# Altium schematic symbol library mcu_stm32g.SchLib: 8 symbols
Pins are listed as number, name and electrical type; pins without a type are passive.

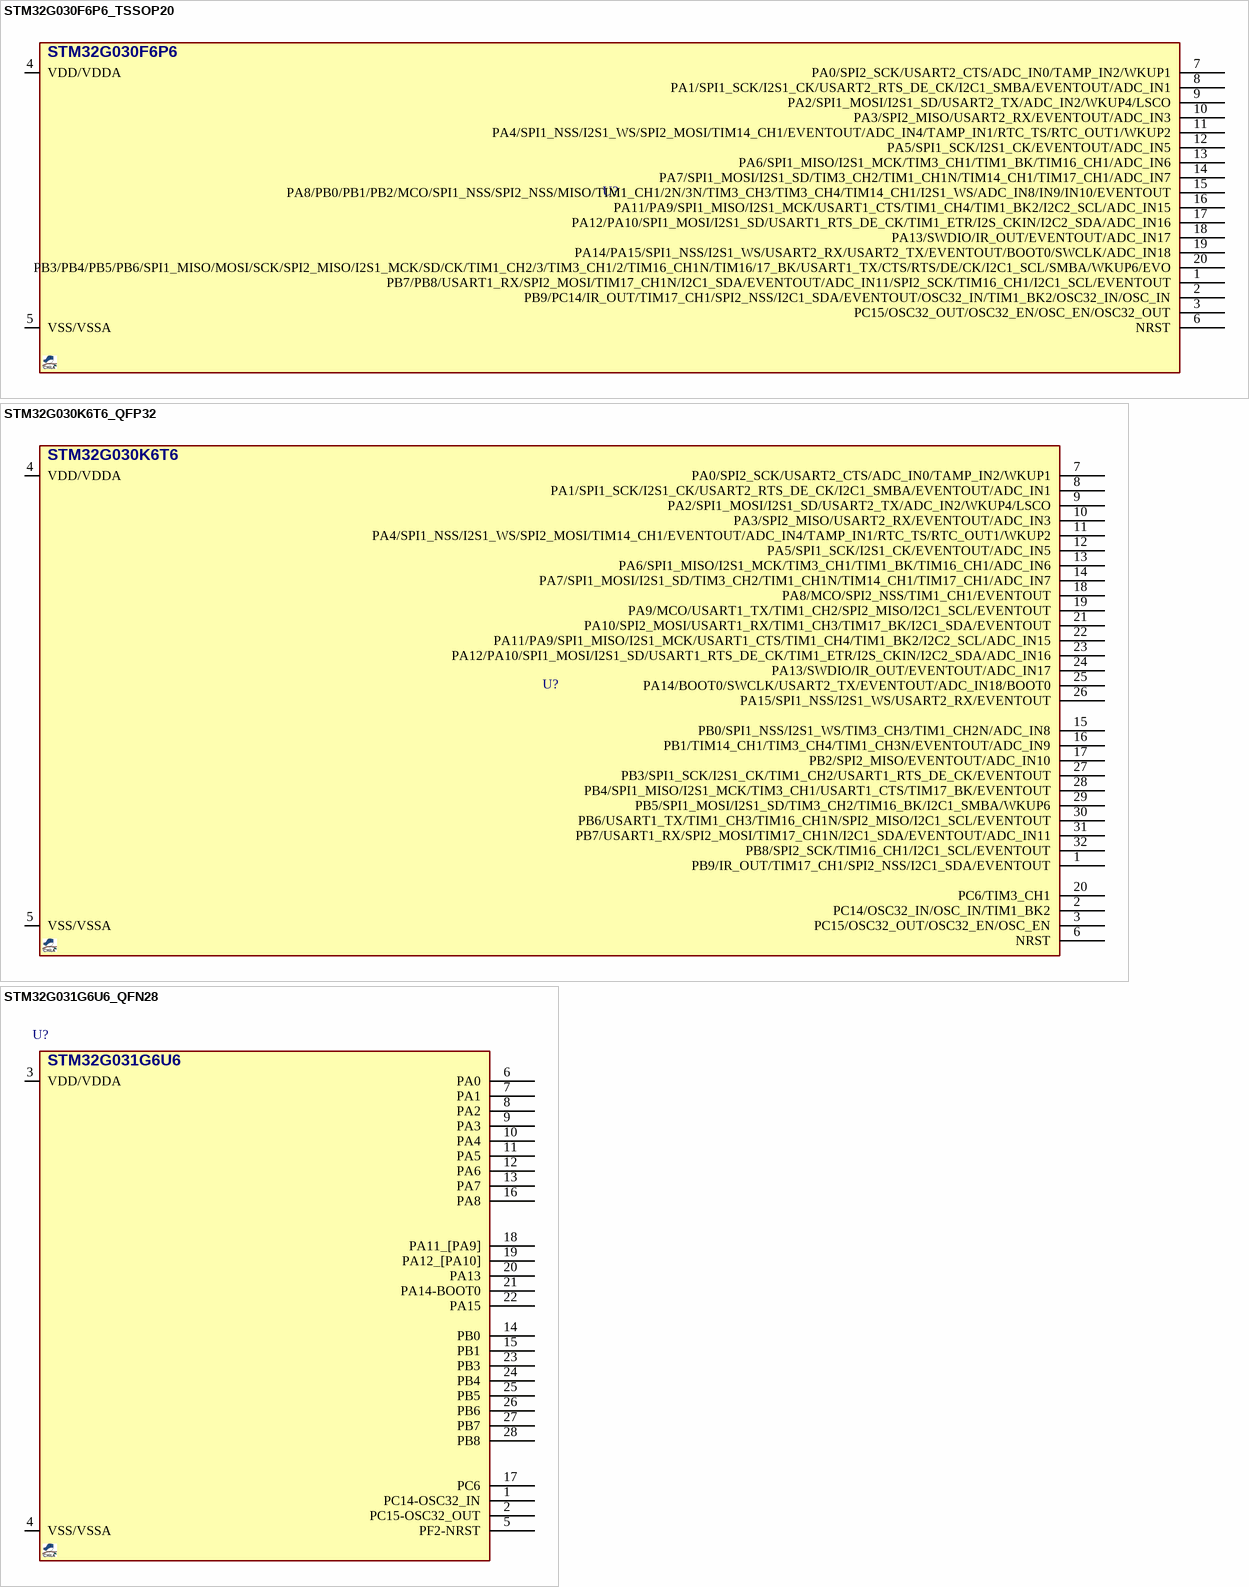
[diagram p0: symbols STM32G030F6P6_TSSOP20 to STM32G031G6U6_QFN28]

## STM32G030F6P6_TSSOP20
designator U?, comment STM32G030  (value not drawn)
MCU, STM32 ARM 32-bit, Cortex M0, 32KB FLASH, 8KB SRAM; DESC: 64MHz, I2C, SPI, USART; MANF: ST; MANF_P#: STM32G030F6P6; PARAM2: 2~3.6VCC, 64MHz, 12Bit ADC; PARAM: 32KB FLASH, 8KB SRAM, -40~85°C; PRICE: 4$; VALUE: STM32G030; PACKAGE: TSSOP-20
footprint SOG65_20 (PW TSSOP (TI), MO-153-AC (JEDEC), 20Lead, pitch: 0.65mm, 6.5x4.4x1.2mm)
pins: 1 PB7/PB8/USART1_RX/SPI2_MOSI/TIM17_CH1N/I2C1_SDA/EVENTOUT/ADC_IN11/SPI2_SCK/TIM16_CH1/I2C1_SCL/EVENTOUT, 2 PB9/PC14/IR_OUT/TIM17_CH1/SPI2_NSS/I2C1_SDA/EVENTOUT/OSC32_IN/TIM1_BK2/OSC32_IN/OSC_IN, 3 PC15/OSC32_OUT/OSC32_EN/OSC_EN/OSC32_OUT, 4 VDD/VDDA, 5 VSS/VSSA, 6 NRST, 7 PA0/SPI2_SCK/USART2_CTS/ADC_IN0/TAMP_IN2/WKUP1, 8 PA1/SPI1_SCK/I2S1_CK/USART2_RTS_DE_CK/I2C1_SMBA/EVENTOUT/ADC_IN1, 9 PA2/SPI1_MOSI/I2S1_SD/USART2_TX/ADC_IN2/WKUP4/LSCO, 10 PA3/SPI2_MISO/USART2_RX/EVENTOUT/ADC_IN3, 11 PA4/SPI1_NSS/I2S1_WS/SPI2_MOSI/TIM14_CH1/EVENTOUT/ADC_IN4/TAMP_IN1/RTC_TS/RTC_OUT1/WKUP2, 12 PA5/SPI1_SCK/I2S1_CK/EVENTOUT/ADC_IN5, 13 PA6/SPI1_MISO/I2S1_MCK/TIM3_CH1/TIM1_BK/TIM16_CH1/ADC_IN6, 14 PA7/SPI1_MOSI/I2S1_SD/TIM3_CH2/TIM1_CH1N/TIM14_CH1/TIM17_CH1/ADC_IN7, 15 PA8/PB0/PB1/PB2/MCO/SPI1_NSS/SPI2_NSS/MISO/TIM1_CH1/2N/3N/TIM3_CH3/TIM3_CH4/TIM14_CH1/I2S1_WS/ADC_IN8/IN9/IN10/EVENTOUT, 16 PA11/PA9/SPI1_MISO/I2S1_MCK/USART1_CTS/TIM1_CH4/TIM1_BK2/I2C2_SCL/ADC_IN15, 17 PA12/PA10/SPI1_MOSI/I2S1_SD/USART1_RTS_DE_CK/TIM1_ETR/I2S_CKIN/I2C2_SDA/ADC_IN16, 18 PA13/SWDIO/IR_OUT/EVENTOUT/ADC_IN17, 19 PA14/PA15/SPI1_NSS/I2S1_WS/USART2_RX/USART2_TX/EVENTOUT/BOOT0/SWCLK/ADC_IN18, 20 PB3/PB4/PB5/PB6/SPI1_MISO/MOSI/SCK/SPI2_MISO/I2S1_MCK/SD/CK/TIM1_CH2/3/TIM3_CH1/2/TIM16_CH1N/TIM16/17_BK/USART1_TX/CTS/RTS/DE/CK/I2C1_SCL/SMBA/WKUP6/EVO

## STM32G030K6T6_QFP32
designator U?, comment STM32G030K6T6  (value not drawn)
MCU, STM32 ARM 32-bit, Cortex M0, 32KB FLASH, 8KB SRAM; DESC: 64MHz, I2C, SPI, USART; MANF: ST; PARAM2: 2~3.6VCC, 64MHz, 12Bit ADC; PARAM: 32KB FLASH,8KB SRAM, -40~85°C; MANF_P#: STM32G030K6T6; PRICE: 1$; VALUE: STM32G030K6T6; PACKAGE: LQFP-32
footprint QFG80_32 (TQFP32, A32 (Cypress), GP32 (Zarlink), MS-026ABA(JEDEC), 7X7mm, 0.8mm)
pins: 1 PB9/IR_OUT/TIM17_CH1/SPI2_NSS/I2C1_SDA/EVENTOUT, 2 PC14/OSC32_IN/OSC_IN/TIM1_BK2, 3 PC15/OSC32_OUT/OSC32_EN/OSC_EN, 4 VDD/VDDA, 5 VSS/VSSA, 6 NRST, 7 PA0/SPI2_SCK/USART2_CTS/ADC_IN0/TAMP_IN2/WKUP1, 8 PA1/SPI1_SCK/I2S1_CK/USART2_RTS_DE_CK/I2C1_SMBA/EVENTOUT/ADC_IN1, 9 PA2/SPI1_MOSI/I2S1_SD/USART2_TX/ADC_IN2/WKUP4/LSCO, 10 PA3/SPI2_MISO/USART2_RX/EVENTOUT/ADC_IN3, 11 PA4/SPI1_NSS/I2S1_WS/SPI2_MOSI/TIM14_CH1/EVENTOUT/ADC_IN4/TAMP_IN1/RTC_TS/RTC_OUT1/WKUP2, 12 PA5/SPI1_SCK/I2S1_CK/EVENTOUT/ADC_IN5, 13 PA6/SPI1_MISO/I2S1_MCK/TIM3_CH1/TIM1_BK/TIM16_CH1/ADC_IN6, 14 PA7/SPI1_MOSI/I2S1_SD/TIM3_CH2/TIM1_CH1N/TIM14_CH1/TIM17_CH1/ADC_IN7, 15 PB0/SPI1_NSS/I2S1_WS/TIM3_CH3/TIM1_CH2N/ADC_IN8, 16 PB1/TIM14_CH1/TIM3_CH4/TIM1_CH3N/EVENTOUT/ADC_IN9, 17 PB2/SPI2_MISO/EVENTOUT/ADC_IN10, 18 PA8/MCO/SPI2_NSS/TIM1_CH1/EVENTOUT, 19 PA9/MCO/USART1_TX/TIM1_CH2/SPI2_MISO/I2C1_SCL/EVENTOUT, 20 PC6/TIM3_CH1, 21 PA10/SPI2_MOSI/USART1_RX/TIM1_CH3/TIM17_BK/I2C1_SDA/EVENTOUT, 22 PA11/PA9/SPI1_MISO/I2S1_MCK/USART1_CTS/TIM1_CH4/TIM1_BK2/I2C2_SCL/ADC_IN15, 23 PA12/PA10/SPI1_MOSI/I2S1_SD/USART1_RTS_DE_CK/TIM1_ETR/I2S_CKIN/I2C2_SDA/ADC_IN16, 24 PA13/SWDIO/IR_OUT/EVENTOUT/ADC_IN17, 25 PA14/BOOT0/SWCLK/USART2_TX/EVENTOUT/ADC_IN18/BOOT0, 26 PA15/SPI1_NSS/I2S1_WS/USART2_RX/EVENTOUT, 27 PB3/SPI1_SCK/I2S1_CK/TIM1_CH2/USART1_RTS_DE_CK/EVENTOUT, 28 PB4/SPI1_MISO/I2S1_MCK/TIM3_CH1/USART1_CTS/TIM17_BK/EVENTOUT, 29 PB5/SPI1_MOSI/I2S1_SD/TIM3_CH2/TIM16_BK/I2C1_SMBA/WKUP6, 30 PB6/USART1_TX/TIM1_CH3/TIM16_CH1N/SPI2_MISO/I2C1_SCL/EVENTOUT, 31 PB7/USART1_RX/SPI2_MOSI/TIM17_CH1N/I2C1_SDA/EVENTOUT/ADC_IN11, 32 PB8/SPI2_SCK/TIM16_CH1/I2C1_SCL/EVENTOUT

## STM32G031G6U6_QFN28
designator U?, comment STM32G031G6U6  (value not drawn)
MCU, STM32 ARM 32-bit, Cortex M0, 32KB FLASH, 8KB SRAM; DESC: 64MHz, I2C, SPI, USART; MANF: ST; PARAM2: 1.7~3.6VCC, 64MHz, 12Bit ADC; PARAM: 32KB FLASH,8KB SRAM, -40~85°C; MANF_P#: STM32G031G6U6; PRICE: 1$; VALUE: STM32G031G6U6; PACKAGE: UFQFPN-28
footprint QFN50_28_4X4 (UFQFPN-28, 28, 4X4mm, 0.5mm pitch)
pins: 1 PC14-OSC32_IN, 2 PC15-OSC32_OUT, 3 VDD/VDDA, 4 VSS/VSSA, 5 PF2-NRST, 6 PA0, 7 PA1, 8 PA2, 9 PA3, 10 PA4, 11 PA5, 12 PA6, 13 PA7, 14 PB0, 15 PB1, 16 PA8, 17 PC6, 18 PA11_[PA9], 19 PA12_[PA10], 20 PA13, 21 PA14-BOOT0, 22 PA15, 23 PB3, 24 PB4, 25 PB5, 26 PB6, 27 PB7, 28 PB8

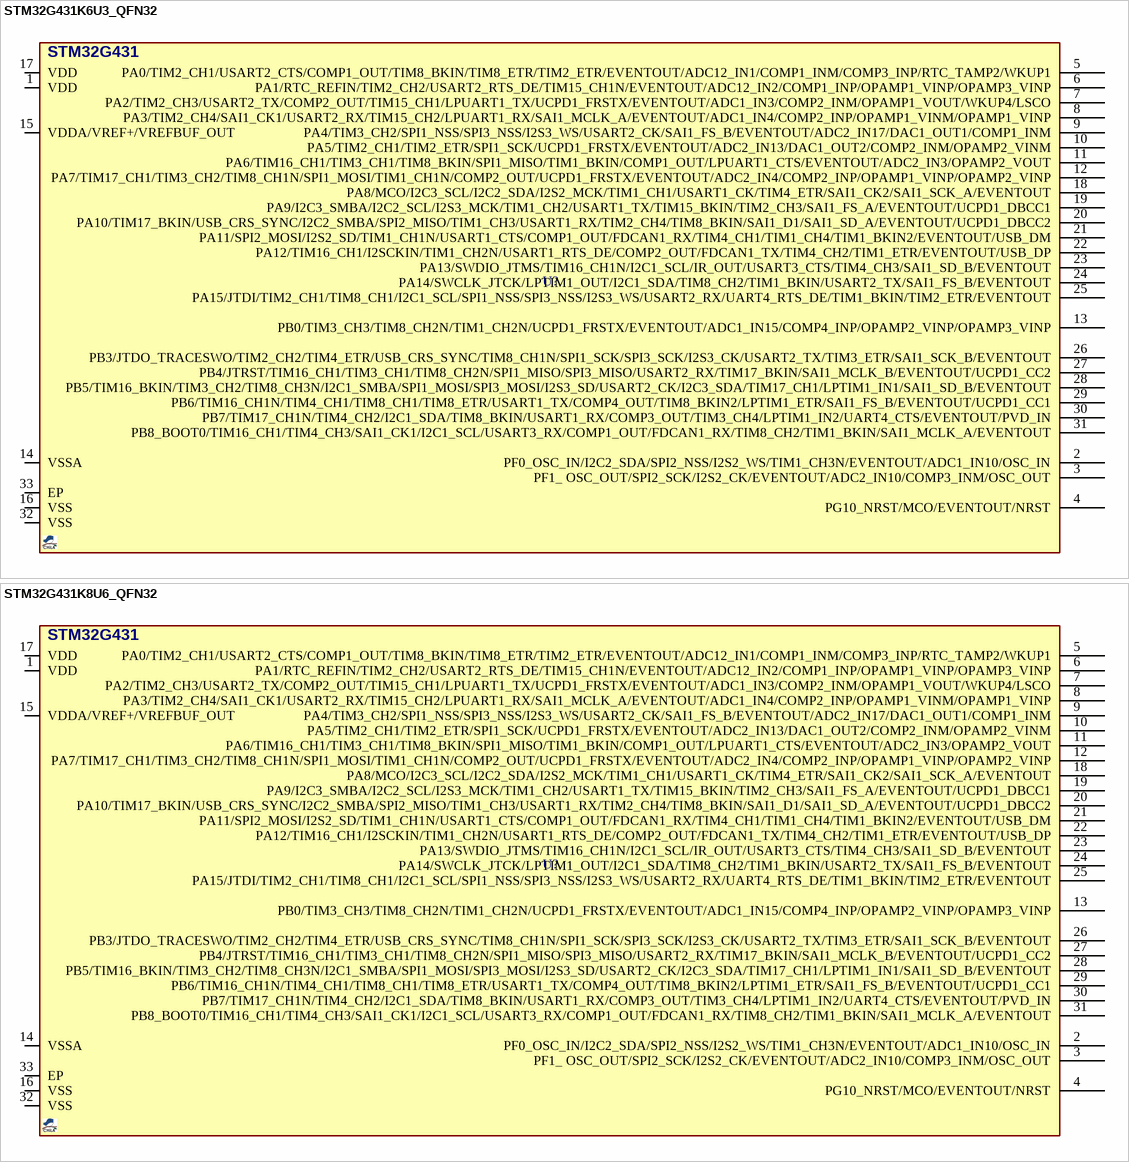
[diagram p1: symbols STM32G431K6U3_QFN32 to STM32G431K8U6_QFN32]

## STM32G431K6U3_QFN32
designator U?, comment STM32G431  (value not drawn)
MCU, STM32 ARM 32-bit, Cortex M4, 32KB FLASH, 32KB SRAM; DESC: 170MHz, CAN, I2C, SPI, USART, USB; MANF: ST; MANF_P#: STM32G431K6U3; PARAM2: 1.7~3.6VCC, 72MHz, 2X16Bit ADC; PARAM: 32KB FLASH, 32KB SRAM, -40~125oC; PRICE: 4$; VALUE: STM32G431; PACKAGE: QFN-32
footprint QFN50_32T (UFQFPN32, QFN-32, RGJ, 5X5mm, 0.5mm)
pins: 1 VDD, 2 PF0_OSC_IN/I2C2_SDA/SPI2_NSS/I2S2_WS/TIM1_CH3N/EVENTOUT/ADC1_IN10/OSC_IN, 3 PF1_ OSC_OUT/SPI2_SCK/I2S2_CK/EVENTOUT/ADC2_IN10/COMP3_INM/OSC_OUT, 4 PG10_NRST/MCO/EVENTOUT/NRST, 5 PA0/TIM2_CH1/USART2_CTS/COMP1_OUT/TIM8_BKIN/TIM8_ETR/TIM2_ETR/EVENTOUT/ADC12_IN1/COMP1_INM/COMP3_INP/RTC_TAMP2/WKUP1, 6 PA1/RTC_REFIN/TIM2_CH2/USART2_RTS_DE/TIM15_CH1N/EVENTOUT/ADC12_IN2/COMP1_INP/OPAMP1_VINP/OPAMP3_VINP, 7 PA2/TIM2_CH3/USART2_TX/COMP2_OUT/TIM15_CH1/LPUART1_TX/UCPD1_FRSTX/EVENTOUT/ADC1_IN3/COMP2_INM/OPAMP1_VOUT/WKUP4/LSCO, 8 PA3/TIM2_CH4/SAI1_CK1/USART2_RX/TIM15_CH2/LPUART1_RX/SAI1_MCLK_A/EVENTOUT/ADC1_IN4/COMP2_INP/OPAMP1_VINM/OPAMP1_VINP, 9 PA4/TIM3_CH2/SPI1_NSS/SPI3_NSS/I2S3_WS/USART2_CK/SAI1_FS_B/EVENTOUT/ADC2_IN17/DAC1_OUT1/COMP1_INM, 10 PA5/TIM2_CH1/TIM2_ETR/SPI1_SCK/UCPD1_FRSTX/EVENTOUT/ADC2_IN13/DAC1_OUT2/COMP2_INM/OPAMP2_VINM, 11 PA6/TIM16_CH1/TIM3_CH1/TIM8_BKIN/SPI1_MISO/TIM1_BKIN/COMP1_OUT/LPUART1_CTS/EVENTOUT/ADC2_IN3/OPAMP2_VOUT, 12 PA7/TIM17_CH1/TIM3_CH2/TIM8_CH1N/SPI1_MOSI/TIM1_CH1N/COMP2_OUT/UCPD1_FRSTX/EVENTOUT/ADC2_IN4/COMP2_INP/OPAMP1_VINP/OPAMP2_VINP, 13 PB0/TIM3_CH3/TIM8_CH2N/TIM1_CH2N/UCPD1_FRSTX/EVENTOUT/ADC1_IN15/COMP4_INP/OPAMP2_VINP/OPAMP3_VINP, 14 VSSA, 15 VDDA/VREF+/VREFBUF_OUT, 16 VSS, 17 VDD, 18 PA8/MCO/I2C3_SCL/I2C2_SDA/I2S2_MCK/TIM1_CH1/USART1_CK/TIM4_ETR/SAI1_CK2/SAI1_SCK_A/EVENTOUT, 19 PA9/I2C3_SMBA/I2C2_SCL/I2S3_MCK/TIM1_CH2/USART1_TX/TIM15_BKIN/TIM2_CH3/SAI1_FS_A/EVENTOUT/UCPD1_DBCC1, 20 PA10/TIM17_BKIN/USB_CRS_SYNC/I2C2_SMBA/SPI2_MISO/TIM1_CH3/USART1_RX/TIM2_CH4/TIM8_BKIN/SAI1_D1/SAI1_SD_A/EVENTOUT/UCPD1_DBCC2, 21 PA11/SPI2_MOSI/I2S2_SD/TIM1_CH1N/USART1_CTS/COMP1_OUT/FDCAN1_RX/TIM4_CH1/TIM1_CH4/TIM1_BKIN2/EVENTOUT/USB_DM, 22 PA12/TIM16_CH1/I2SCKIN/TIM1_CH2N/USART1_RTS_DE/COMP2_OUT/FDCAN1_TX/TIM4_CH2/TIM1_ETR/EVENTOUT/USB_DP, 23 PA13/SWDIO_JTMS/TIM16_CH1N/I2C1_SCL/IR_OUT/USART3_CTS/TIM4_CH3/SAI1_SD_B/EVENTOUT, 24 PA14/SWCLK_JTCK/LPTIM1_OUT/I2C1_SDA/TIM8_CH2/TIM1_BKIN/USART2_TX/SAI1_FS_B/EVENTOUT, 25 PA15/JTDI/TIM2_CH1/TIM8_CH1/I2C1_SCL/SPI1_NSS/SPI3_NSS/I2S3_WS/USART2_RX/UART4_RTS_DE/TIM1_BKIN/TIM2_ETR/EVENTOUT, 26 PB3/JTDO_TRACESWO/TIM2_CH2/TIM4_ETR/USB_CRS_SYNC/TIM8_CH1N/SPI1_SCK/SPI3_SCK/I2S3_CK/USART2_TX/TIM3_ETR/SAI1_SCK_B/EVENTOUT, 27 PB4/JTRST/TIM16_CH1/TIM3_CH1/TIM8_CH2N/SPI1_MISO/SPI3_MISO/USART2_RX/TIM17_BKIN/SAI1_MCLK_B/EVENTOUT/UCPD1_CC2, 28 PB5/TIM16_BKIN/TIM3_CH2/TIM8_CH3N/I2C1_SMBA/SPI1_MOSI/SPI3_MOSI/I2S3_SD/USART2_CK/I2C3_SDA/TIM17_CH1/LPTIM1_IN1/SAI1_SD_B/EVENTOUT, 29 PB6/TIM16_CH1N/TIM4_CH1/TIM8_CH1/TIM8_ETR/USART1_TX/COMP4_OUT/TIM8_BKIN2/LPTIM1_ETR/SAI1_FS_B/EVENTOUT/UCPD1_CC1, 30 PB7/TIM17_CH1N/TIM4_CH2/I2C1_SDA/TIM8_BKIN/USART1_RX/COMP3_OUT/TIM3_CH4/LPTIM1_IN2/UART4_CTS/EVENTOUT/PVD_IN, 31 PB8_BOOT0/TIM16_CH1/TIM4_CH3/SAI1_CK1/I2C1_SCL/USART3_RX/COMP1_OUT/FDCAN1_RX/TIM8_CH2/TIM1_BKIN/SAI1_MCLK_A/EVENTOUT, 32 VSS, 33 EP

## STM32G431K8U6_QFN32
designator U?, comment STM32G431  (value not drawn)
MCU, STM32 ARM 32-bit, Cortex M4, 64KB FLASH, 32KB SRAM; DESC: 170MHz, CAN, I2C, SPI, USART, USB; MANF: ST; MANF_P#: STM32G431K8U6; PARAM2: 1.7~3.6VCC, 72MHz, 2X16Bit ADC; PARAM: 64KB FLASH, 32KB SRAM, -40~85oC; PRICE: 4$; VALUE: STM32G431; PACKAGE: QFN-32
footprint QFN50_32T (UFQFPN32, QFN-32, RGJ, 5X5mm, 0.5mm)
pins: 1 VDD, 2 PF0_OSC_IN/I2C2_SDA/SPI2_NSS/I2S2_WS/TIM1_CH3N/EVENTOUT/ADC1_IN10/OSC_IN, 3 PF1_ OSC_OUT/SPI2_SCK/I2S2_CK/EVENTOUT/ADC2_IN10/COMP3_INM/OSC_OUT, 4 PG10_NRST/MCO/EVENTOUT/NRST, 5 PA0/TIM2_CH1/USART2_CTS/COMP1_OUT/TIM8_BKIN/TIM8_ETR/TIM2_ETR/EVENTOUT/ADC12_IN1/COMP1_INM/COMP3_INP/RTC_TAMP2/WKUP1, 6 PA1/RTC_REFIN/TIM2_CH2/USART2_RTS_DE/TIM15_CH1N/EVENTOUT/ADC12_IN2/COMP1_INP/OPAMP1_VINP/OPAMP3_VINP, 7 PA2/TIM2_CH3/USART2_TX/COMP2_OUT/TIM15_CH1/LPUART1_TX/UCPD1_FRSTX/EVENTOUT/ADC1_IN3/COMP2_INM/OPAMP1_VOUT/WKUP4/LSCO, 8 PA3/TIM2_CH4/SAI1_CK1/USART2_RX/TIM15_CH2/LPUART1_RX/SAI1_MCLK_A/EVENTOUT/ADC1_IN4/COMP2_INP/OPAMP1_VINM/OPAMP1_VINP, 9 PA4/TIM3_CH2/SPI1_NSS/SPI3_NSS/I2S3_WS/USART2_CK/SAI1_FS_B/EVENTOUT/ADC2_IN17/DAC1_OUT1/COMP1_INM, 10 PA5/TIM2_CH1/TIM2_ETR/SPI1_SCK/UCPD1_FRSTX/EVENTOUT/ADC2_IN13/DAC1_OUT2/COMP2_INM/OPAMP2_VINM, 11 PA6/TIM16_CH1/TIM3_CH1/TIM8_BKIN/SPI1_MISO/TIM1_BKIN/COMP1_OUT/LPUART1_CTS/EVENTOUT/ADC2_IN3/OPAMP2_VOUT, 12 PA7/TIM17_CH1/TIM3_CH2/TIM8_CH1N/SPI1_MOSI/TIM1_CH1N/COMP2_OUT/UCPD1_FRSTX/EVENTOUT/ADC2_IN4/COMP2_INP/OPAMP1_VINP/OPAMP2_VINP, 13 PB0/TIM3_CH3/TIM8_CH2N/TIM1_CH2N/UCPD1_FRSTX/EVENTOUT/ADC1_IN15/COMP4_INP/OPAMP2_VINP/OPAMP3_VINP, 14 VSSA, 15 VDDA/VREF+/VREFBUF_OUT, 16 VSS, 17 VDD, 18 PA8/MCO/I2C3_SCL/I2C2_SDA/I2S2_MCK/TIM1_CH1/USART1_CK/TIM4_ETR/SAI1_CK2/SAI1_SCK_A/EVENTOUT, 19 PA9/I2C3_SMBA/I2C2_SCL/I2S3_MCK/TIM1_CH2/USART1_TX/TIM15_BKIN/TIM2_CH3/SAI1_FS_A/EVENTOUT/UCPD1_DBCC1, 20 PA10/TIM17_BKIN/USB_CRS_SYNC/I2C2_SMBA/SPI2_MISO/TIM1_CH3/USART1_RX/TIM2_CH4/TIM8_BKIN/SAI1_D1/SAI1_SD_A/EVENTOUT/UCPD1_DBCC2, 21 PA11/SPI2_MOSI/I2S2_SD/TIM1_CH1N/USART1_CTS/COMP1_OUT/FDCAN1_RX/TIM4_CH1/TIM1_CH4/TIM1_BKIN2/EVENTOUT/USB_DM, 22 PA12/TIM16_CH1/I2SCKIN/TIM1_CH2N/USART1_RTS_DE/COMP2_OUT/FDCAN1_TX/TIM4_CH2/TIM1_ETR/EVENTOUT/USB_DP, 23 PA13/SWDIO_JTMS/TIM16_CH1N/I2C1_SCL/IR_OUT/USART3_CTS/TIM4_CH3/SAI1_SD_B/EVENTOUT, 24 PA14/SWCLK_JTCK/LPTIM1_OUT/I2C1_SDA/TIM8_CH2/TIM1_BKIN/USART2_TX/SAI1_FS_B/EVENTOUT, 25 PA15/JTDI/TIM2_CH1/TIM8_CH1/I2C1_SCL/SPI1_NSS/SPI3_NSS/I2S3_WS/USART2_RX/UART4_RTS_DE/TIM1_BKIN/TIM2_ETR/EVENTOUT, 26 PB3/JTDO_TRACESWO/TIM2_CH2/TIM4_ETR/USB_CRS_SYNC/TIM8_CH1N/SPI1_SCK/SPI3_SCK/I2S3_CK/USART2_TX/TIM3_ETR/SAI1_SCK_B/EVENTOUT, 27 PB4/JTRST/TIM16_CH1/TIM3_CH1/TIM8_CH2N/SPI1_MISO/SPI3_MISO/USART2_RX/TIM17_BKIN/SAI1_MCLK_B/EVENTOUT/UCPD1_CC2, 28 PB5/TIM16_BKIN/TIM3_CH2/TIM8_CH3N/I2C1_SMBA/SPI1_MOSI/SPI3_MOSI/I2S3_SD/USART2_CK/I2C3_SDA/TIM17_CH1/LPTIM1_IN1/SAI1_SD_B/EVENTOUT, 29 PB6/TIM16_CH1N/TIM4_CH1/TIM8_CH1/TIM8_ETR/USART1_TX/COMP4_OUT/TIM8_BKIN2/LPTIM1_ETR/SAI1_FS_B/EVENTOUT/UCPD1_CC1, 30 PB7/TIM17_CH1N/TIM4_CH2/I2C1_SDA/TIM8_BKIN/USART1_RX/COMP3_OUT/TIM3_CH4/LPTIM1_IN2/UART4_CTS/EVENTOUT/PVD_IN, 31 PB8_BOOT0/TIM16_CH1/TIM4_CH3/SAI1_CK1/I2C1_SCL/USART3_RX/COMP1_OUT/FDCAN1_RX/TIM8_CH2/TIM1_BKIN/SAI1_MCLK_A/EVENTOUT, 32 VSS, 33 EP

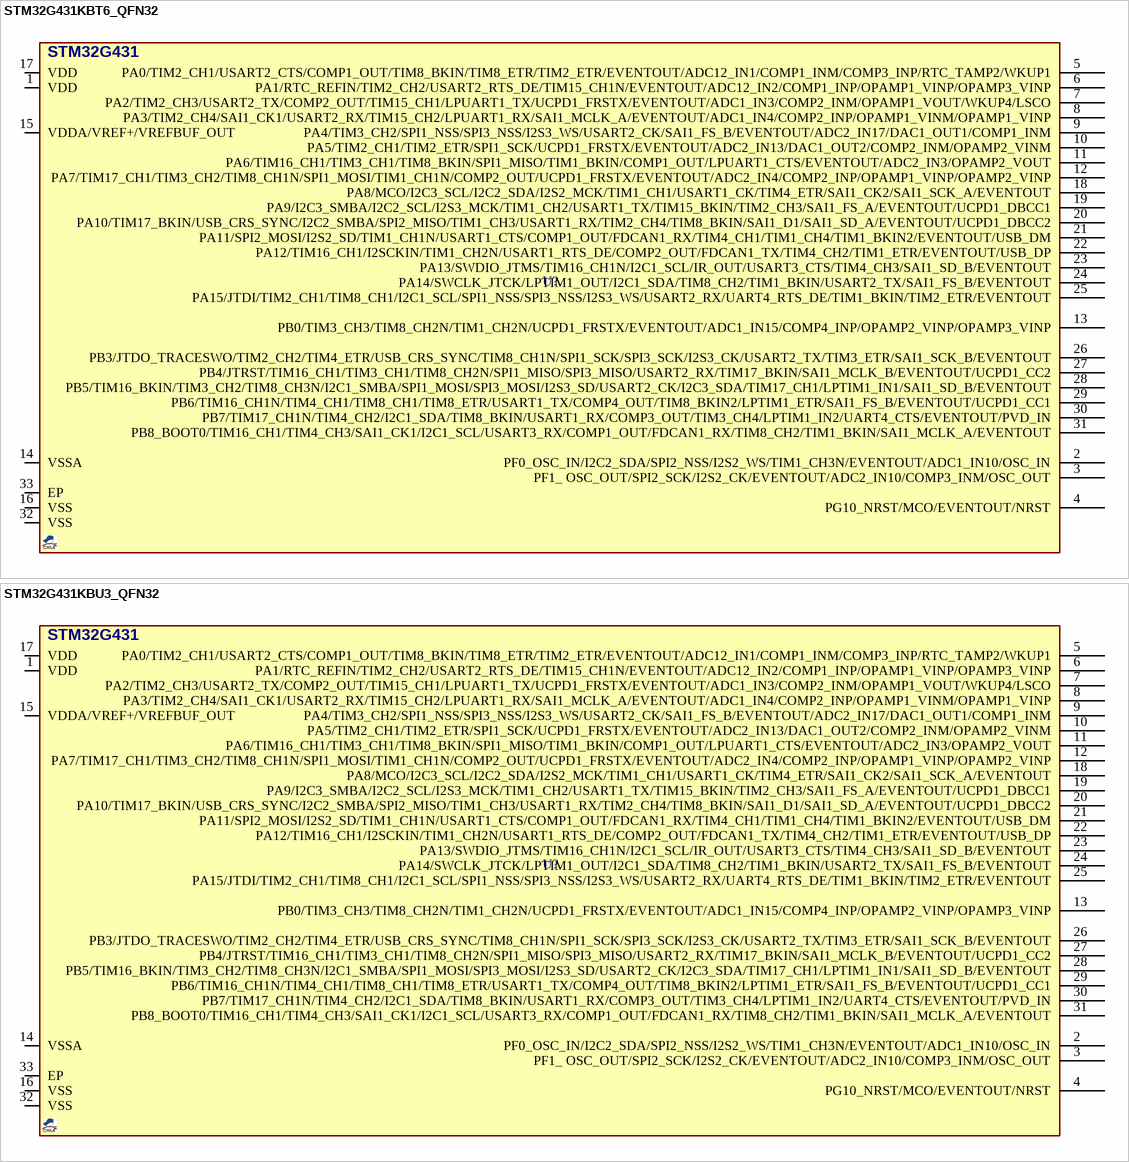
[diagram p2: symbols STM32G431KBT6_QFN32 to STM32G431KBU3_QFN32]

## STM32G431KBT6_QFN32
designator U?, comment STM32G431  (value not drawn)
MCU, STM32 ARM 32-bit, Cortex M4, 128KB FLASH, 32KB SRAM; DESC: 170MHz, CAN, I2C, SPI, USART, USB; MANF: ST; MANF_P#: STM32G431KBT6; PARAM2: 1.7~3.6VCC, 72MHz, 2X16Bit ADC; PARAM: 128KB FLASH, 32KB SRAM, -40~85oC; PRICE: 4$; VALUE: STM32G431; PACKAGE: QFN-32
footprint QFG50_32 (PBS TSQFP, 32-Leads, Body 5.00x5.00mm, Pitch 0.50mm)
pins: 1 VDD, 2 PF0_OSC_IN/I2C2_SDA/SPI2_NSS/I2S2_WS/TIM1_CH3N/EVENTOUT/ADC1_IN10/OSC_IN, 3 PF1_ OSC_OUT/SPI2_SCK/I2S2_CK/EVENTOUT/ADC2_IN10/COMP3_INM/OSC_OUT, 4 PG10_NRST/MCO/EVENTOUT/NRST, 5 PA0/TIM2_CH1/USART2_CTS/COMP1_OUT/TIM8_BKIN/TIM8_ETR/TIM2_ETR/EVENTOUT/ADC12_IN1/COMP1_INM/COMP3_INP/RTC_TAMP2/WKUP1, 6 PA1/RTC_REFIN/TIM2_CH2/USART2_RTS_DE/TIM15_CH1N/EVENTOUT/ADC12_IN2/COMP1_INP/OPAMP1_VINP/OPAMP3_VINP, 7 PA2/TIM2_CH3/USART2_TX/COMP2_OUT/TIM15_CH1/LPUART1_TX/UCPD1_FRSTX/EVENTOUT/ADC1_IN3/COMP2_INM/OPAMP1_VOUT/WKUP4/LSCO, 8 PA3/TIM2_CH4/SAI1_CK1/USART2_RX/TIM15_CH2/LPUART1_RX/SAI1_MCLK_A/EVENTOUT/ADC1_IN4/COMP2_INP/OPAMP1_VINM/OPAMP1_VINP, 9 PA4/TIM3_CH2/SPI1_NSS/SPI3_NSS/I2S3_WS/USART2_CK/SAI1_FS_B/EVENTOUT/ADC2_IN17/DAC1_OUT1/COMP1_INM, 10 PA5/TIM2_CH1/TIM2_ETR/SPI1_SCK/UCPD1_FRSTX/EVENTOUT/ADC2_IN13/DAC1_OUT2/COMP2_INM/OPAMP2_VINM, 11 PA6/TIM16_CH1/TIM3_CH1/TIM8_BKIN/SPI1_MISO/TIM1_BKIN/COMP1_OUT/LPUART1_CTS/EVENTOUT/ADC2_IN3/OPAMP2_VOUT, 12 PA7/TIM17_CH1/TIM3_CH2/TIM8_CH1N/SPI1_MOSI/TIM1_CH1N/COMP2_OUT/UCPD1_FRSTX/EVENTOUT/ADC2_IN4/COMP2_INP/OPAMP1_VINP/OPAMP2_VINP, 13 PB0/TIM3_CH3/TIM8_CH2N/TIM1_CH2N/UCPD1_FRSTX/EVENTOUT/ADC1_IN15/COMP4_INP/OPAMP2_VINP/OPAMP3_VINP, 14 VSSA, 15 VDDA/VREF+/VREFBUF_OUT, 16 VSS, 17 VDD, 18 PA8/MCO/I2C3_SCL/I2C2_SDA/I2S2_MCK/TIM1_CH1/USART1_CK/TIM4_ETR/SAI1_CK2/SAI1_SCK_A/EVENTOUT, 19 PA9/I2C3_SMBA/I2C2_SCL/I2S3_MCK/TIM1_CH2/USART1_TX/TIM15_BKIN/TIM2_CH3/SAI1_FS_A/EVENTOUT/UCPD1_DBCC1, 20 PA10/TIM17_BKIN/USB_CRS_SYNC/I2C2_SMBA/SPI2_MISO/TIM1_CH3/USART1_RX/TIM2_CH4/TIM8_BKIN/SAI1_D1/SAI1_SD_A/EVENTOUT/UCPD1_DBCC2, 21 PA11/SPI2_MOSI/I2S2_SD/TIM1_CH1N/USART1_CTS/COMP1_OUT/FDCAN1_RX/TIM4_CH1/TIM1_CH4/TIM1_BKIN2/EVENTOUT/USB_DM, 22 PA12/TIM16_CH1/I2SCKIN/TIM1_CH2N/USART1_RTS_DE/COMP2_OUT/FDCAN1_TX/TIM4_CH2/TIM1_ETR/EVENTOUT/USB_DP, 23 PA13/SWDIO_JTMS/TIM16_CH1N/I2C1_SCL/IR_OUT/USART3_CTS/TIM4_CH3/SAI1_SD_B/EVENTOUT, 24 PA14/SWCLK_JTCK/LPTIM1_OUT/I2C1_SDA/TIM8_CH2/TIM1_BKIN/USART2_TX/SAI1_FS_B/EVENTOUT, 25 PA15/JTDI/TIM2_CH1/TIM8_CH1/I2C1_SCL/SPI1_NSS/SPI3_NSS/I2S3_WS/USART2_RX/UART4_RTS_DE/TIM1_BKIN/TIM2_ETR/EVENTOUT, 26 PB3/JTDO_TRACESWO/TIM2_CH2/TIM4_ETR/USB_CRS_SYNC/TIM8_CH1N/SPI1_SCK/SPI3_SCK/I2S3_CK/USART2_TX/TIM3_ETR/SAI1_SCK_B/EVENTOUT, 27 PB4/JTRST/TIM16_CH1/TIM3_CH1/TIM8_CH2N/SPI1_MISO/SPI3_MISO/USART2_RX/TIM17_BKIN/SAI1_MCLK_B/EVENTOUT/UCPD1_CC2, 28 PB5/TIM16_BKIN/TIM3_CH2/TIM8_CH3N/I2C1_SMBA/SPI1_MOSI/SPI3_MOSI/I2S3_SD/USART2_CK/I2C3_SDA/TIM17_CH1/LPTIM1_IN1/SAI1_SD_B/EVENTOUT, 29 PB6/TIM16_CH1N/TIM4_CH1/TIM8_CH1/TIM8_ETR/USART1_TX/COMP4_OUT/TIM8_BKIN2/LPTIM1_ETR/SAI1_FS_B/EVENTOUT/UCPD1_CC1, 30 PB7/TIM17_CH1N/TIM4_CH2/I2C1_SDA/TIM8_BKIN/USART1_RX/COMP3_OUT/TIM3_CH4/LPTIM1_IN2/UART4_CTS/EVENTOUT/PVD_IN, 31 PB8_BOOT0/TIM16_CH1/TIM4_CH3/SAI1_CK1/I2C1_SCL/USART3_RX/COMP1_OUT/FDCAN1_RX/TIM8_CH2/TIM1_BKIN/SAI1_MCLK_A/EVENTOUT, 32 VSS, 33 EP

## STM32G431KBU3_QFN32
designator U?, comment STM32G431  (value not drawn)
MCU, STM32 ARM 32-bit, Cortex M4, 128KB FLASH, 32KB SRAM; DESC: 170MHz, CAN, I2C, SPI, USART, USB; MANF: ST; MANF_P#: STM32G431KBU6; PARAM2: 1.7~3.6VCC, 72MHz, 2X16Bit ADC; PARAM: 128KB FLASH, 32KB SRAM, -40~125oC; PRICE: 4$; VALUE: STM32G431; PACKAGE: QFN-32
footprint QFN50_32T (UFQFPN32, QFN-32, RGJ, 5X5mm, 0.5mm)
pins: 1 VDD, 2 PF0_OSC_IN/I2C2_SDA/SPI2_NSS/I2S2_WS/TIM1_CH3N/EVENTOUT/ADC1_IN10/OSC_IN, 3 PF1_ OSC_OUT/SPI2_SCK/I2S2_CK/EVENTOUT/ADC2_IN10/COMP3_INM/OSC_OUT, 4 PG10_NRST/MCO/EVENTOUT/NRST, 5 PA0/TIM2_CH1/USART2_CTS/COMP1_OUT/TIM8_BKIN/TIM8_ETR/TIM2_ETR/EVENTOUT/ADC12_IN1/COMP1_INM/COMP3_INP/RTC_TAMP2/WKUP1, 6 PA1/RTC_REFIN/TIM2_CH2/USART2_RTS_DE/TIM15_CH1N/EVENTOUT/ADC12_IN2/COMP1_INP/OPAMP1_VINP/OPAMP3_VINP, 7 PA2/TIM2_CH3/USART2_TX/COMP2_OUT/TIM15_CH1/LPUART1_TX/UCPD1_FRSTX/EVENTOUT/ADC1_IN3/COMP2_INM/OPAMP1_VOUT/WKUP4/LSCO, 8 PA3/TIM2_CH4/SAI1_CK1/USART2_RX/TIM15_CH2/LPUART1_RX/SAI1_MCLK_A/EVENTOUT/ADC1_IN4/COMP2_INP/OPAMP1_VINM/OPAMP1_VINP, 9 PA4/TIM3_CH2/SPI1_NSS/SPI3_NSS/I2S3_WS/USART2_CK/SAI1_FS_B/EVENTOUT/ADC2_IN17/DAC1_OUT1/COMP1_INM, 10 PA5/TIM2_CH1/TIM2_ETR/SPI1_SCK/UCPD1_FRSTX/EVENTOUT/ADC2_IN13/DAC1_OUT2/COMP2_INM/OPAMP2_VINM, 11 PA6/TIM16_CH1/TIM3_CH1/TIM8_BKIN/SPI1_MISO/TIM1_BKIN/COMP1_OUT/LPUART1_CTS/EVENTOUT/ADC2_IN3/OPAMP2_VOUT, 12 PA7/TIM17_CH1/TIM3_CH2/TIM8_CH1N/SPI1_MOSI/TIM1_CH1N/COMP2_OUT/UCPD1_FRSTX/EVENTOUT/ADC2_IN4/COMP2_INP/OPAMP1_VINP/OPAMP2_VINP, 13 PB0/TIM3_CH3/TIM8_CH2N/TIM1_CH2N/UCPD1_FRSTX/EVENTOUT/ADC1_IN15/COMP4_INP/OPAMP2_VINP/OPAMP3_VINP, 14 VSSA, 15 VDDA/VREF+/VREFBUF_OUT, 16 VSS, 17 VDD, 18 PA8/MCO/I2C3_SCL/I2C2_SDA/I2S2_MCK/TIM1_CH1/USART1_CK/TIM4_ETR/SAI1_CK2/SAI1_SCK_A/EVENTOUT, 19 PA9/I2C3_SMBA/I2C2_SCL/I2S3_MCK/TIM1_CH2/USART1_TX/TIM15_BKIN/TIM2_CH3/SAI1_FS_A/EVENTOUT/UCPD1_DBCC1, 20 PA10/TIM17_BKIN/USB_CRS_SYNC/I2C2_SMBA/SPI2_MISO/TIM1_CH3/USART1_RX/TIM2_CH4/TIM8_BKIN/SAI1_D1/SAI1_SD_A/EVENTOUT/UCPD1_DBCC2, 21 PA11/SPI2_MOSI/I2S2_SD/TIM1_CH1N/USART1_CTS/COMP1_OUT/FDCAN1_RX/TIM4_CH1/TIM1_CH4/TIM1_BKIN2/EVENTOUT/USB_DM, 22 PA12/TIM16_CH1/I2SCKIN/TIM1_CH2N/USART1_RTS_DE/COMP2_OUT/FDCAN1_TX/TIM4_CH2/TIM1_ETR/EVENTOUT/USB_DP, 23 PA13/SWDIO_JTMS/TIM16_CH1N/I2C1_SCL/IR_OUT/USART3_CTS/TIM4_CH3/SAI1_SD_B/EVENTOUT, 24 PA14/SWCLK_JTCK/LPTIM1_OUT/I2C1_SDA/TIM8_CH2/TIM1_BKIN/USART2_TX/SAI1_FS_B/EVENTOUT, 25 PA15/JTDI/TIM2_CH1/TIM8_CH1/I2C1_SCL/SPI1_NSS/SPI3_NSS/I2S3_WS/USART2_RX/UART4_RTS_DE/TIM1_BKIN/TIM2_ETR/EVENTOUT, 26 PB3/JTDO_TRACESWO/TIM2_CH2/TIM4_ETR/USB_CRS_SYNC/TIM8_CH1N/SPI1_SCK/SPI3_SCK/I2S3_CK/USART2_TX/TIM3_ETR/SAI1_SCK_B/EVENTOUT, 27 PB4/JTRST/TIM16_CH1/TIM3_CH1/TIM8_CH2N/SPI1_MISO/SPI3_MISO/USART2_RX/TIM17_BKIN/SAI1_MCLK_B/EVENTOUT/UCPD1_CC2, 28 PB5/TIM16_BKIN/TIM3_CH2/TIM8_CH3N/I2C1_SMBA/SPI1_MOSI/SPI3_MOSI/I2S3_SD/USART2_CK/I2C3_SDA/TIM17_CH1/LPTIM1_IN1/SAI1_SD_B/EVENTOUT, 29 PB6/TIM16_CH1N/TIM4_CH1/TIM8_CH1/TIM8_ETR/USART1_TX/COMP4_OUT/TIM8_BKIN2/LPTIM1_ETR/SAI1_FS_B/EVENTOUT/UCPD1_CC1, 30 PB7/TIM17_CH1N/TIM4_CH2/I2C1_SDA/TIM8_BKIN/USART1_RX/COMP3_OUT/TIM3_CH4/LPTIM1_IN2/UART4_CTS/EVENTOUT/PVD_IN, 31 PB8_BOOT0/TIM16_CH1/TIM4_CH3/SAI1_CK1/I2C1_SCL/USART3_RX/COMP1_OUT/FDCAN1_RX/TIM8_CH2/TIM1_BKIN/SAI1_MCLK_A/EVENTOUT, 32 VSS, 33 EP

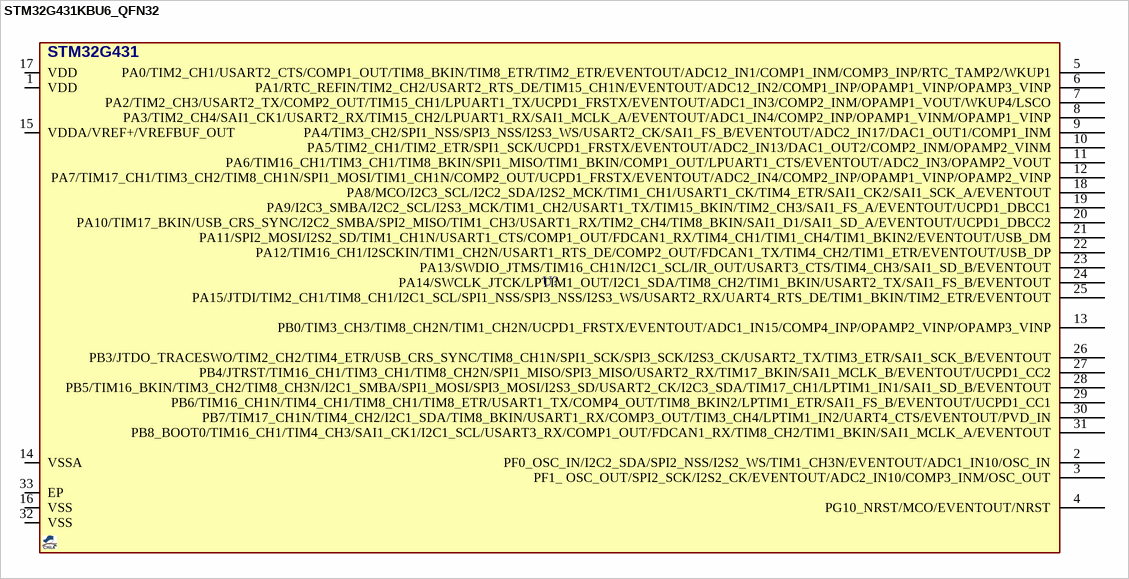
[diagram p3: symbol STM32G431KBU6_QFN32]

## STM32G431KBU6_QFN32
designator U?, comment STM32G431  (value not drawn)
MCU, STM32 ARM 32-bit, Cortex M4, 128KB FLASH, 32KB SRAM; DESC: 170MHz, CAN, I2C, SPI, USART, USB; MANF: ST; MANF_P#: STM32G431KBU6; PARAM2: 1.7~3.6VCC, 72MHz, 2X16Bit ADC; PARAM: 128KB FLASH, 32KB SRAM, -40~85oC; PRICE: 4$; VALUE: STM32G431; PACKAGE: QFN-32
footprint QFN50_32T (UFQFPN32, QFN-32, RGJ, 5X5mm, 0.5mm)
pins: 1 VDD, 2 PF0_OSC_IN/I2C2_SDA/SPI2_NSS/I2S2_WS/TIM1_CH3N/EVENTOUT/ADC1_IN10/OSC_IN, 3 PF1_ OSC_OUT/SPI2_SCK/I2S2_CK/EVENTOUT/ADC2_IN10/COMP3_INM/OSC_OUT, 4 PG10_NRST/MCO/EVENTOUT/NRST, 5 PA0/TIM2_CH1/USART2_CTS/COMP1_OUT/TIM8_BKIN/TIM8_ETR/TIM2_ETR/EVENTOUT/ADC12_IN1/COMP1_INM/COMP3_INP/RTC_TAMP2/WKUP1, 6 PA1/RTC_REFIN/TIM2_CH2/USART2_RTS_DE/TIM15_CH1N/EVENTOUT/ADC12_IN2/COMP1_INP/OPAMP1_VINP/OPAMP3_VINP, 7 PA2/TIM2_CH3/USART2_TX/COMP2_OUT/TIM15_CH1/LPUART1_TX/UCPD1_FRSTX/EVENTOUT/ADC1_IN3/COMP2_INM/OPAMP1_VOUT/WKUP4/LSCO, 8 PA3/TIM2_CH4/SAI1_CK1/USART2_RX/TIM15_CH2/LPUART1_RX/SAI1_MCLK_A/EVENTOUT/ADC1_IN4/COMP2_INP/OPAMP1_VINM/OPAMP1_VINP, 9 PA4/TIM3_CH2/SPI1_NSS/SPI3_NSS/I2S3_WS/USART2_CK/SAI1_FS_B/EVENTOUT/ADC2_IN17/DAC1_OUT1/COMP1_INM, 10 PA5/TIM2_CH1/TIM2_ETR/SPI1_SCK/UCPD1_FRSTX/EVENTOUT/ADC2_IN13/DAC1_OUT2/COMP2_INM/OPAMP2_VINM, 11 PA6/TIM16_CH1/TIM3_CH1/TIM8_BKIN/SPI1_MISO/TIM1_BKIN/COMP1_OUT/LPUART1_CTS/EVENTOUT/ADC2_IN3/OPAMP2_VOUT, 12 PA7/TIM17_CH1/TIM3_CH2/TIM8_CH1N/SPI1_MOSI/TIM1_CH1N/COMP2_OUT/UCPD1_FRSTX/EVENTOUT/ADC2_IN4/COMP2_INP/OPAMP1_VINP/OPAMP2_VINP, 13 PB0/TIM3_CH3/TIM8_CH2N/TIM1_CH2N/UCPD1_FRSTX/EVENTOUT/ADC1_IN15/COMP4_INP/OPAMP2_VINP/OPAMP3_VINP, 14 VSSA, 15 VDDA/VREF+/VREFBUF_OUT, 16 VSS, 17 VDD, 18 PA8/MCO/I2C3_SCL/I2C2_SDA/I2S2_MCK/TIM1_CH1/USART1_CK/TIM4_ETR/SAI1_CK2/SAI1_SCK_A/EVENTOUT, 19 PA9/I2C3_SMBA/I2C2_SCL/I2S3_MCK/TIM1_CH2/USART1_TX/TIM15_BKIN/TIM2_CH3/SAI1_FS_A/EVENTOUT/UCPD1_DBCC1, 20 PA10/TIM17_BKIN/USB_CRS_SYNC/I2C2_SMBA/SPI2_MISO/TIM1_CH3/USART1_RX/TIM2_CH4/TIM8_BKIN/SAI1_D1/SAI1_SD_A/EVENTOUT/UCPD1_DBCC2, 21 PA11/SPI2_MOSI/I2S2_SD/TIM1_CH1N/USART1_CTS/COMP1_OUT/FDCAN1_RX/TIM4_CH1/TIM1_CH4/TIM1_BKIN2/EVENTOUT/USB_DM, 22 PA12/TIM16_CH1/I2SCKIN/TIM1_CH2N/USART1_RTS_DE/COMP2_OUT/FDCAN1_TX/TIM4_CH2/TIM1_ETR/EVENTOUT/USB_DP, 23 PA13/SWDIO_JTMS/TIM16_CH1N/I2C1_SCL/IR_OUT/USART3_CTS/TIM4_CH3/SAI1_SD_B/EVENTOUT, 24 PA14/SWCLK_JTCK/LPTIM1_OUT/I2C1_SDA/TIM8_CH2/TIM1_BKIN/USART2_TX/SAI1_FS_B/EVENTOUT, 25 PA15/JTDI/TIM2_CH1/TIM8_CH1/I2C1_SCL/SPI1_NSS/SPI3_NSS/I2S3_WS/USART2_RX/UART4_RTS_DE/TIM1_BKIN/TIM2_ETR/EVENTOUT, 26 PB3/JTDO_TRACESWO/TIM2_CH2/TIM4_ETR/USB_CRS_SYNC/TIM8_CH1N/SPI1_SCK/SPI3_SCK/I2S3_CK/USART2_TX/TIM3_ETR/SAI1_SCK_B/EVENTOUT, 27 PB4/JTRST/TIM16_CH1/TIM3_CH1/TIM8_CH2N/SPI1_MISO/SPI3_MISO/USART2_RX/TIM17_BKIN/SAI1_MCLK_B/EVENTOUT/UCPD1_CC2, 28 PB5/TIM16_BKIN/TIM3_CH2/TIM8_CH3N/I2C1_SMBA/SPI1_MOSI/SPI3_MOSI/I2S3_SD/USART2_CK/I2C3_SDA/TIM17_CH1/LPTIM1_IN1/SAI1_SD_B/EVENTOUT, 29 PB6/TIM16_CH1N/TIM4_CH1/TIM8_CH1/TIM8_ETR/USART1_TX/COMP4_OUT/TIM8_BKIN2/LPTIM1_ETR/SAI1_FS_B/EVENTOUT/UCPD1_CC1, 30 PB7/TIM17_CH1N/TIM4_CH2/I2C1_SDA/TIM8_BKIN/USART1_RX/COMP3_OUT/TIM3_CH4/LPTIM1_IN2/UART4_CTS/EVENTOUT/PVD_IN, 31 PB8_BOOT0/TIM16_CH1/TIM4_CH3/SAI1_CK1/I2C1_SCL/USART3_RX/COMP1_OUT/FDCAN1_RX/TIM8_CH2/TIM1_BKIN/SAI1_MCLK_A/EVENTOUT, 32 VSS, 33 EP